# Altium footprint library 1N4148.PcbLib: 1 footprints
Each footprint in its own frame and in the unit in brackets; x right, y up, seen from the top. Pads: shape width x height; smd on the part's side, far side on the other; paste and mask are expansions set on the pad; w line width, h text height; cw(c..) or ccw(c..) is an arc to the next point about the centre after c.
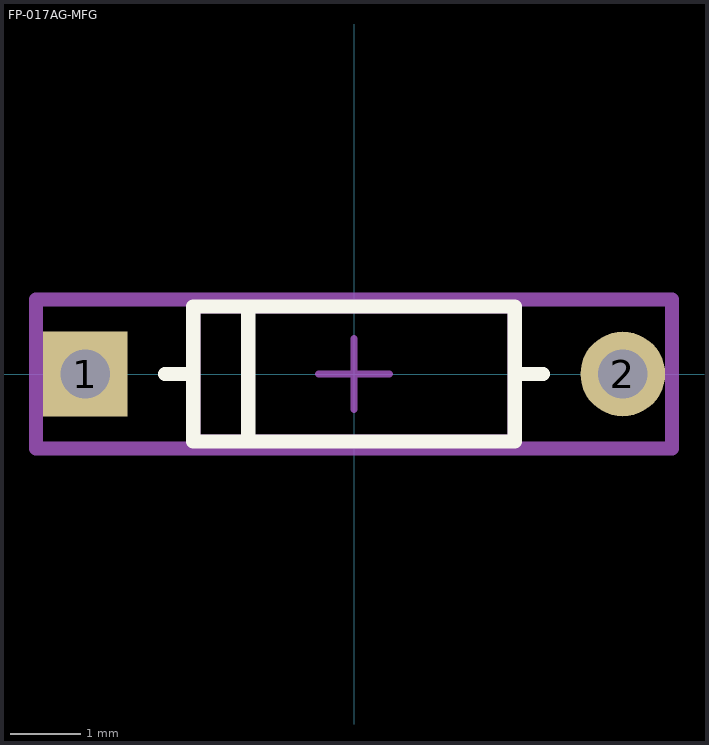
[diagram p0: the footprint, top view; thin cyan lines are the x and y axes]

## FP-017AG-MFG [mm]
pads (2):
  rect 1.2x1.2 hole 0.7 paste-2539.97 mask+0: 1(-3.813,0)
  round 1.2 hole 0.7 paste-2539.97 mask+0: 2(3.813,0)
Top Overlay:
  lines w0.2: -2.68,0 -2.28,0 ; -1.5,-0.855 -1.5,0.855 ; 2.28,0 2.68,0 ; -2.28,-0.955 -2.28,0.955 2.28,0.955 2.28,-0.955 -2.28,-0.955
Top Assembly:
  lines w0.2: -4.513,-1.055 -4.513,1.055 4.513,1.055 4.513,-1.055 -4.513,-1.055
  text ".Designator" at 0,0.188 h1
Top 3D Body:
  lines w0.2: -2.28,-0.955 -2.28,0.955 2.28,0.955 2.28,-0.955 -2.28,-0.955
Top Courtyard:
  lines w0.2: -4.513,-1.055 -4.513,1.055 4.513,1.055 4.513,-1.055 -4.513,-1.055
Top Component Center:
  lines w0.1: -0.5,0 0.5,0 ; 0,-0.5 0,0.5
3D body "Diode_ON_Semiconductor_1N914B_eec.STEP": height 0.25, standoff 0, extent -4.513,-1.055 4.513,1.055